# EAGLE library part 1-2199298-9 (library 1-2199298-9)
DIP Sockets, Stamped & Formed, 28 Position, Low Profile, Straight, Tin, -40 105 C [-40 221 F] Source: Datasheet <https://www.te.com/commerce/DocumentDelivery/DDEController?Action=showdoc&DocId=Customer Drawing2199298ApdfEnglishENG_CD_2199298_A_baseFilename.pdf1-2199298-9>
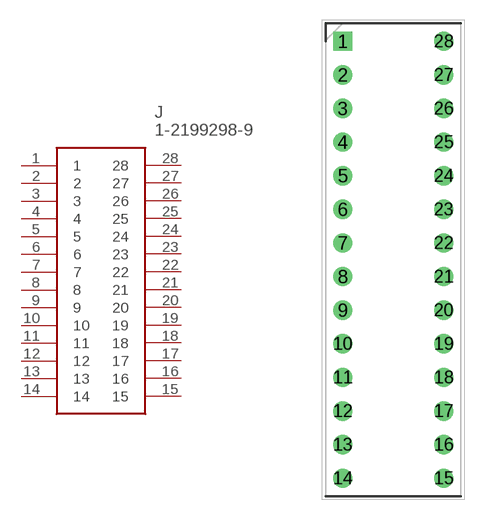
[diagram p0: symbol with the pads of DIPS762W70P254L3556H530Q28N; footprint DIPS762W70P254L3556H530Q28N]

Designator prefix J

## 1-2199298-9 (Description: DIP Sockets, Stamped & Formed, 28 Position, Low Profile, Straight, Tin, -40 105 C [-40 221 F]; Height: 5.3mm; Manufacturer_Name: TE Connectivity; Manufacturer_Part_Number: 1-2199298-9; Mouser_Part_Number: 571-1-2199298-9; Mouser_Price-Stock: https://www.mouser.co.uk/ProductDetail/TE-Connectivity/1-2199298-9?qs=fK8dlpkaUMumZ9haKKccEA%3D%3D)  [DIPS762W70P254L3556H530Q28N]
1  1
2  2
3  3
4  4
5  5
6  6
7  7
8  8
9  9
10  10
11  11
12  12
13  13
14  14
15  15
16  16
17  17
18  18
19  19
20  20
21  21
22  22
23  23
24  24
25  25
26  26
27  27
28  28

## Footprint DIPS762W70P254L3556H530Q28N (pad centres in mm)
DIP28
drill 0.95 pad 1.425 square: 1 0,0
drill 0.95 pad 1.425: 2 0,-2.54; 3 0,-5.08; 4 0,-7.62; 5 0,-10.16; 6 0,-12.7; 7 0,-15.24; 8 0,-17.78; 9 0,-20.32; 10 0,-22.86; 11 0,-25.4; 12 0,-27.94; 13 0,-30.48; 14 0,-33.02; 15 7.62,-33.02; 16 7.62,-30.48; 17 7.62,-27.94; 18 7.62,-25.4; 19 7.62,-22.86; 20 7.62,-20.32; 21 7.62,-17.78; 22 7.62,-15.24; 23 7.62,-12.7; 24 7.62,-10.16; 25 7.62,-7.62; 26 7.62,-5.08; 27 7.62,-2.54; 28 7.62,0